# Altium schematic symbol library STM32WB55.SchLib: 1 symbol
Pins are listed as number, name and electrical type; pins without a type are passive.

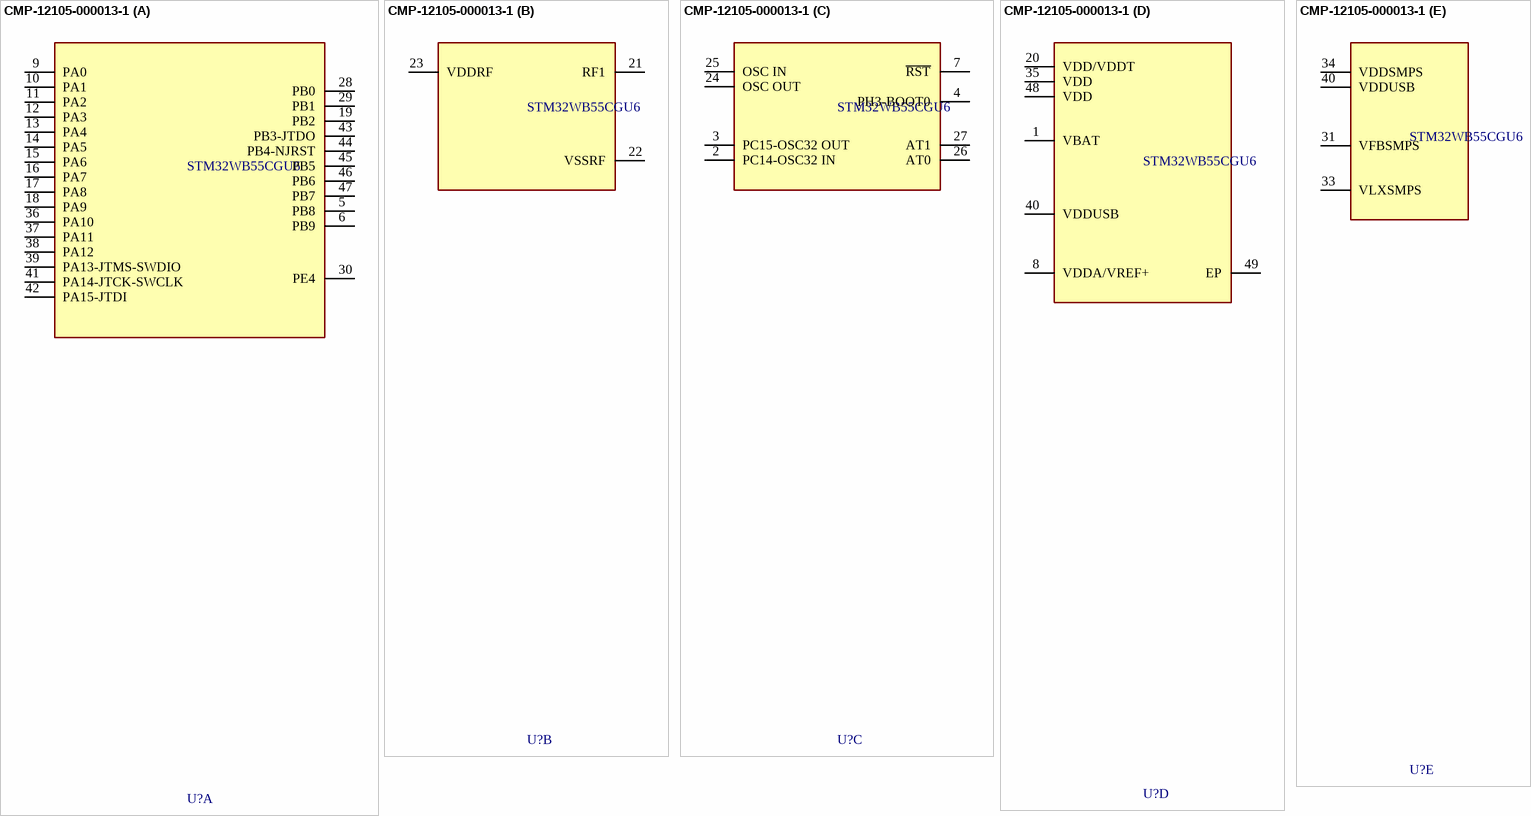
[diagram p0: symbol CMP-12105-000013-1]

## CMP-12105-000013-1
designator U?, comment STM32WB55CGU6
ULTRA-LOW-POWER DUAL CORE ARM CO; Manufacturer: STMicroelectronics; Number Of Cores: 1; Number Of I2C Channels: 2; Interface: I2C,SPI,UART,USART,2-Wire,USB,IrDA,Other; Core Architecture: ARM Cortex-M4; Data Bus Width: 32bits; Memory Size: 1MBytes; Number Of Pwm Channels: 14; Max Supply Voltage: 3.6V; Standoff Height: 0mm; Number Of Timers/Counters: 6; Frequency: 64MHz; Max Junction Temp: +105°C; Number Of I/Os: 30; Min Supply Voltage: 1.71V; Number Of Adc Channels: 13; Ram Size: 256KBytes; Memory Type: FLASH; Octopart: https://octopart.com/stm32wb55cgu6-stmicroelectronics-98750847; Temperature Range High: +105°C; RoHS: TRUE; Number Of Spi Channels: 1; Category: IC; Device Class L1: Integrated Circuits (ICs); Lead Free: Yes; Height: 0.65mm; Number Of A/D Converters: 1; Package: UFQFPN48; Number Of Usb Channels: 1; Number Of Uart Channels: 2; Temperature Range Low: -40°C; Ambient Temperature Range Low: -40°C; Device Class L3: Microcontrollers; Manufacturer Part Number: STM32WB55CGU6; Temperature: -40°C to +105°C; ComponentLink2URL: https://www.st.com/resource/en/datasheet/stm32wb55cg.pdf; Device Class L2: Embedded Processors and Controllers; Digikey Description: ULTRA-LOW-POWER DUAL CORE ARM CO; ComponentLink2Description: Datasheet; Ambient Temperature Range High: +85°C; Automotive: No
footprint FP-STM32WB55CGU6-IPC_B
footprint FP-STM32WB55CGU6-MFG
footprint FP-STM32WB55CGU6-IPC_A
footprint FP-STM32WB55CGU6-IPC_C
part A pins: 5 PB8, 6 PB9, 9 PA0, 10 PA1, 11 PA2, 12 PA3, 13 PA4, 14 PA5, 15 PA6, 16 PA7, 17 PA8, 18 PA9, 19 PB2, 28 PB0, 29 PB1, 30 PE4, 36 PA10, 37 PA11, 38 PA12, 39 PA13-JTMS-SWDIO, 41 PA14-JTCK-SWCLK, 42 PA15-JTDI, 43 PB3-JTDO, 44 PB4-NJRST, 45 PB5, 46 PB6, 47 PB7
part B pins: 21 RF1, 22 VSSRF, 23 VDDRF
part C pins: 2 PC14-OSC32 IN, 3 PC15-OSC32 OUT, 4 PH3-BOOT0, 7 ~{RST}, 24 OSC OUT, 25 OSC IN, 26 AT0, 27 AT1
part D pins: 1 VBAT, 8 VDDA/VREF+, 20 VDD/VDDT, 35 VDD, 40 VDDUSB, 48 VDD, 49 EP (oc)
part E pins: 31 VFBSMPS, 33 VLXSMPS, 34 VDDSMPS, 40 VDDUSB